# EAGLE library part TPA3116 (library snd_ampli_boards)
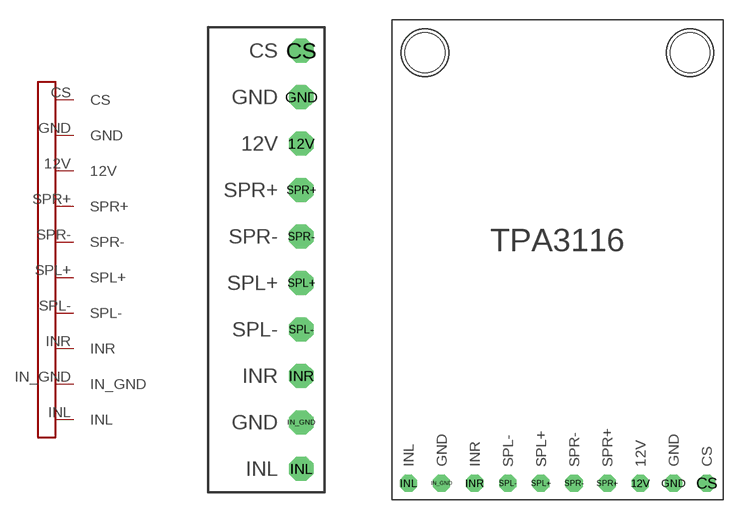
[diagram p1: symbol with the pads of TPA3116_VERT; footprints TPA3116_VERT, TPA3116_PLAIN]

Designator prefix -

## TPA3116VERTICAL  [TPA3116_VERT]
12V  12V
CS  CS
GND  GND
IN_GND  IN_GND
INL  INL
INR  INR
SPL+  SPL+
SPL-  SPL-
SPR+  SPR+
SPR-  SPR-

## TPA3116PLAIN  [TPA3116_PLAIN]
Pads as for TPA3116_VERT

## TPA3116PLAIN_NO_HOLES  [TPA3116_PLAIN_NOHOLE]
Pads as for TPA3116_VERT

## Footprint TPA3116_VERT (pad centres in mm)
drill 0.813 octagon: 12V 5.08,19.05; CS 5.08,24.13; GND 5.08,21.59; IN_GND 5.08,3.81; INL 5.08,1.27; INR 5.08,6.35; SPL+ 5.08,11.43; SPL- 5.08,8.89; SPR+ 5.08,16.51; SPR- 5.08,13.97

## Footprint TPA3116_PLAIN (pad centres in mm)
drill 0.813 octagon: 12V 19.05,1.27; CS 24.13,1.27; GND 21.59,1.27; IN_GND 3.81,1.27; INL 1.27,1.27; INR 6.35,1.27; SPL+ 11.43,1.27; SPL- 8.89,1.27; SPR+ 16.51,1.27; SPR- 13.97,1.27
hole 3.048 at 2.54,34.29
hole 3.048 at 22.86,34.29

## Footprint TPA3116_PLAIN_NOHOLE (pad centres in mm)
drill 0.813 octagon: 12V 19.05,1.27; CS 24.13,1.27; GND 21.59,1.27; IN_GND 3.81,1.27; INL 1.27,1.27; INR 6.35,1.27; SPL+ 11.43,1.27; SPL- 8.89,1.27; SPR+ 16.51,1.27; SPR- 13.97,1.27